# Altium footprint library IR2184.PcbLib: 24 footprints (part 1 of 2)
Each footprint in its own frame and in the unit in brackets; x right, y up, seen from the top. Pads: shape width x height; smd on the part's side, far side on the other; paste and mask are expansions set on the pad; w line width, h text height; cw(c..) or ccw(c..) is an arc to the next point about the centre after c.
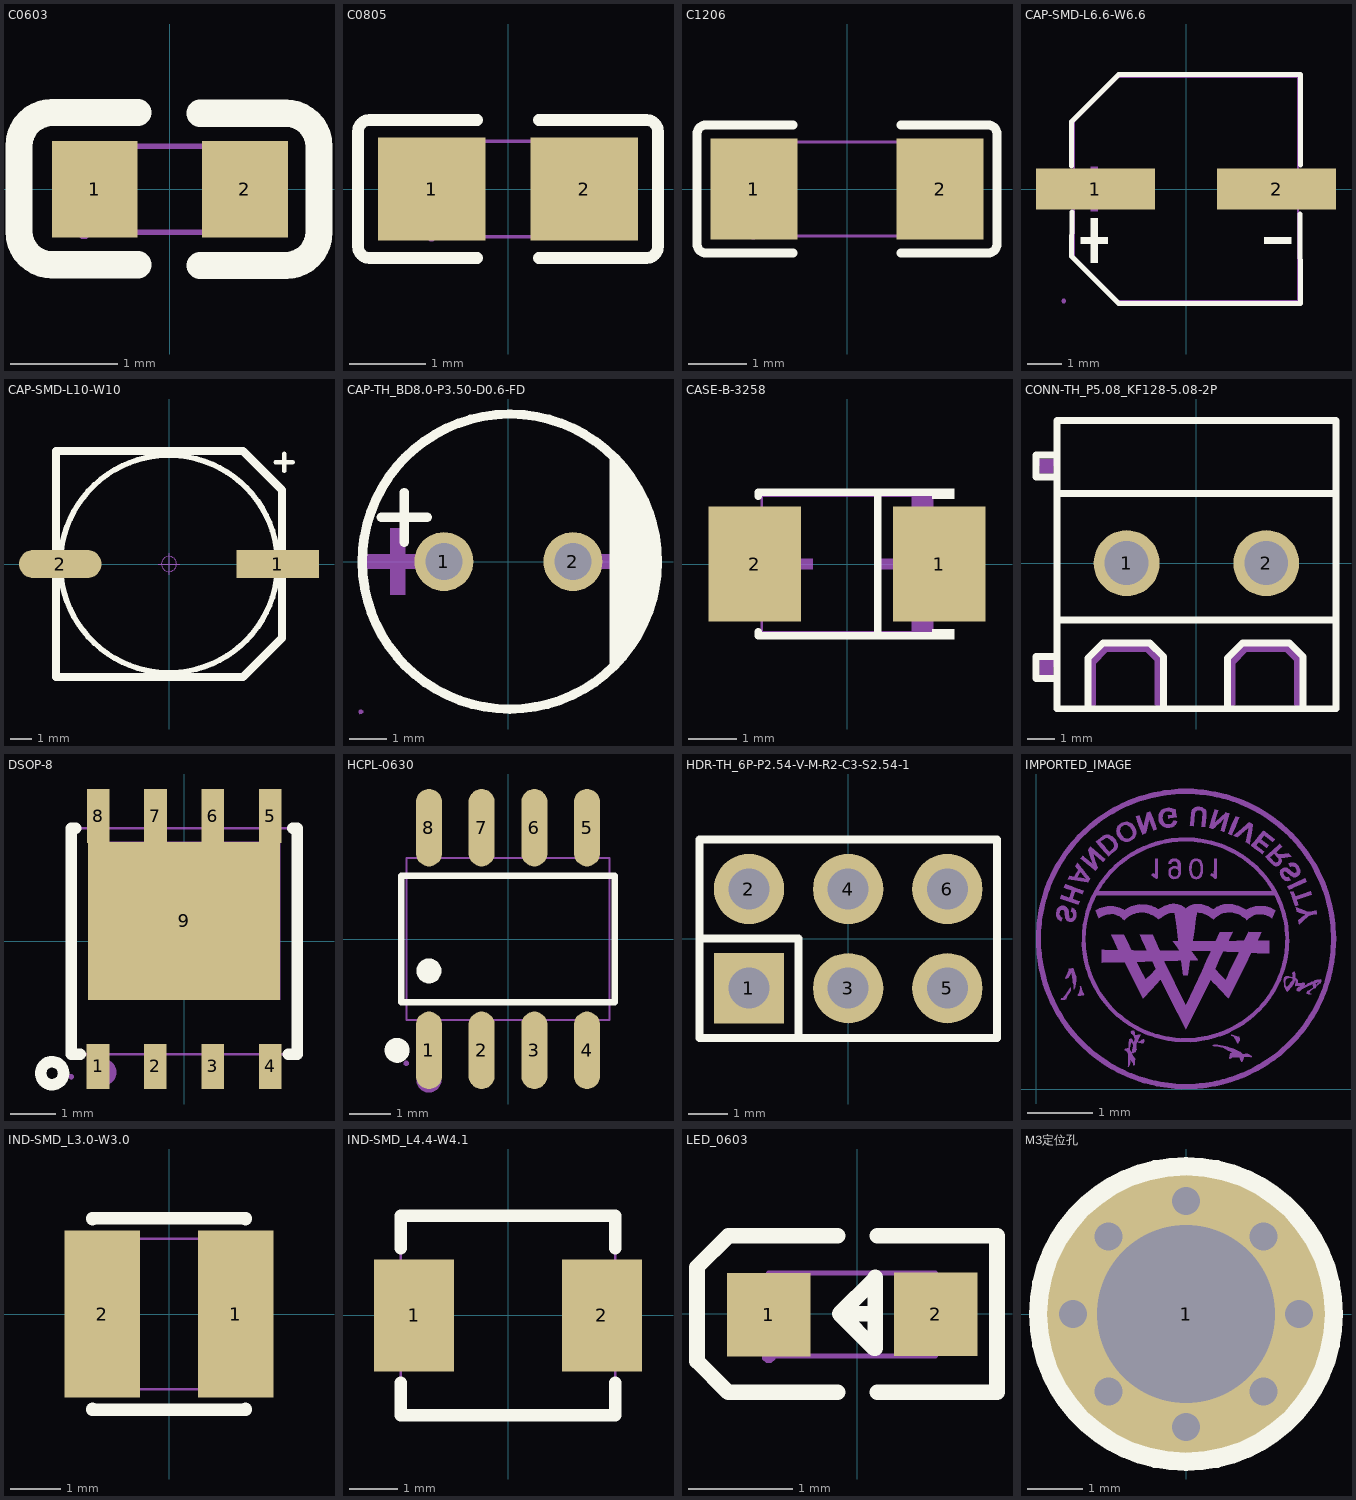
[diagram p0: the footprints below, top view; thin cyan lines are the x and y axes]

## C0603 [mm]
pads (2):
  rect 0.8x0.9 smd: 1(-0.7,0) 2(0.7,0)
Top Overlay:
  lines w0.254: -0.296,-0.704 -1.096,-0.704 cw(c-1.096,-0.394) -1.406,-0.394 -1.405,0.406 cw(c-1.096,0.406) -1.096,0.715 -0.296,0.715 ; 0.28,-0.71 1.08,-0.71 ccw(c1.08,-0.4) 1.39,-0.4 1.39,0.4 ccw(c1.08,0.4) 1.08,0.71 0.28,0.71
Mechanical 15:
  region: -0.8,-0.4 -0.8,0.4 -0.5,0.4 -0.5,-0.4
  region: 0.8,-0.4 0.8,0.4 0.5,0.4 0.5,-0.4
  region: -0.8,-0.34 -0.825,-0.34 -0.86,-0.375 -0.86,-0.425 -0.825,-0.46 -0.8,-0.46 -0.775,-0.46 -0.74,-0.425 -0.74,-0.375 -0.775,-0.34 -0.8,-0.34
  lines w0.051: -0.8,-0.4 -0.8,0.4 0.8,0.4 0.8,-0.4 -0.8,-0.4

## C0805 [mm]
pads (2):
  rect 1.41x1.35 smd paste-100 mask+0.051: 1(-1,0) 2(1,0)
Top Overlay:
  lines w0.152: -0.401,-0.904 -1.811,-0.904 cw(c-1.811,-0.751) -1.964,-0.751 -1.964,0.751 cw(c-1.811,0.751) -1.811,0.904 -0.401,0.904 ; 0.401,-0.904 1.811,-0.904 ccw(c1.811,-0.751) 1.964,-0.751 1.964,0.751 ccw(c1.811,0.751) 1.811,0.904 0.401,0.904
Top Paste:
  region: 1.705,0.64 1.705,-0.64 1.655,-0.69 0.505,-0.69 0.455,-0.64 0.45,-0.23 0.9,-0.23 0.9,0.22 0.46,0.22 0.455,0.64 0.505,0.69 1.655,0.69
  region: -1.705,-0.64 -1.705,0.64 -1.655,0.69 -0.505,0.69 -0.455,0.64 -0.45,0.23 -0.9,0.23 -0.9,-0.22 -0.46,-0.22 -0.455,-0.64 -0.505,-0.69 -1.655,-0.69
Mechanical 15:
  region: 1,0.625 1,-0.625 0.5,-0.625 0.5,0.625
  region: -1,-0.625 -1,0.625 -0.5,0.625 -0.5,-0.625
  region: -1,-0.685 -0.976,-0.684 -0.942,-0.649 -0.942,-0.601 -0.976,-0.566 -1,-0.565 -1.024,-0.566 -1.058,-0.601 -1.058,-0.649 -1.024,-0.684 -1,-0.685
  lines w0.051: -1,-0.625 1,-0.625 1,0.625 -1,0.625 -1,-0.625

## C1206 [mm]
pads (2):
  rect 1.485x1.728 smd paste-100 mask+0.051: 1(-1.593,0) 2(1.593,0)
Top Overlay:
  lines w0.152: -0.926,-1.093 -2.411,-1.093 cw(c-2.411,-0.94) -2.564,-0.94 -2.564,0.94 cw(c-2.411,0.94) -2.411,1.093 -0.926,1.093 ; 0.926,-1.093 2.411,-1.093 ccw(c2.411,-0.94) 2.564,-0.94 2.564,0.94 ccw(c2.411,0.94) 2.411,1.093 0.926,1.093
Top Paste:
  region: -0.85,-0.764 -0.85,-0.394 -0.95,-0.294 -1.255,-0.294 -1.355,-0.194 -1.355,0.194 -1.255,0.294 -0.95,0.294 -0.85,0.394 -0.85,0.764 -0.95,0.864 -2.235,0.864 -2.335,0.764 -2.335,-0.764 -2.235,-0.864 -0.95,-0.864
  region: 0.85,-0.764 0.85,-0.394 0.95,-0.294 1.255,-0.294 1.355,-0.194 1.355,0.194 1.255,0.294 0.95,0.294 0.85,0.394 0.85,0.764 0.95,0.864 2.235,0.864 2.335,0.764 2.335,-0.764 2.235,-0.864 0.95,-0.864
Mechanical 15:
  region: 1.6,-0.8 1.6,0.8 1.1,0.8 1.1,-0.8
  region: -1.6,-0.8 -1.6,0.8 -1.1,0.8 -1.1,-0.8
  region: -1.66,-0.8 -1.66,-0.825 -1.625,-0.86 -1.575,-0.86 -1.54,-0.825 -1.54,-0.8 -1.54,-0.775 -1.575,-0.74 -1.625,-0.74 -1.66,-0.775 -1.66,-0.8
  lines w0.051: -1.6,-0.8 1.6,-0.8 1.6,0.8 -1.6,0.8 -1.6,-0.8

## CAP-SMD-L6.6-W6.6 [mm]
pads (2):
  rect 3.5x1.2 smd: 1(-2.67,0) 2(2.67,0)
Top Overlay:
  region: 3.102,-1.419 3.102,-1.617 2.31,-1.617 2.31,-1.419
  region: -3.102,-1.419 -3.102,-1.617 -2.31,-1.617 -2.31,-1.419
  region: -2.805,-0.858 -2.805,-2.178 -2.607,-2.178 -2.607,-0.858
  lines w0.152: -3.376,0.686 -3.376,1.98 -1.98,3.376 3.376,3.376 3.369,0.708 ; -3.362,-0.686 -3.376,-1.981 -1.981,-3.376 3.376,-3.376 3.356,-0.739
Mechanical 6:
  region: 3.102,0.099 3.102,-0.099 2.31,-0.099 2.31,0.099
  region: -3.102,0.099 -3.102,-0.099 -2.31,-0.099 -2.31,0.099
  region: -2.805,0.66 -2.805,-0.66 -2.607,-0.66 -2.607,0.66
Mechanical 15:
  region: -3.6,0.35 -0.95,0.35 -0.95,-0.35 -3.6,-0.35
  region: 0.95,0.35 3.6,0.35 3.6,-0.35 0.95,-0.35
  region: -3.6,-3.24 -3.625,-3.24 -3.66,-3.275 -3.66,-3.325 -3.625,-3.36 -3.6,-3.36 -3.575,-3.36 -3.54,-3.325 -3.54,-3.275 -3.575,-3.24 -3.6,-3.24
  lines w0.051: -3.3,-1.98 -3.3,1.98 -1.98,3.3 3.3,3.3 3.3,-3.3 -1.98,-3.3 -3.3,-1.98

## CAP-SMD-L10-W10 [mm] "直径10mm，高13mm                 联系卖家 免费查找封装"
pads (2):
  rect 3.8x1.3 smd: 1(5,0)
  oval 3.8x1.3 smd: 2(-5,0)
Top Overlay:
  circle w0.254: c0,0 r5
  lines w0.2: 4.9,4.675 5.7,4.675 ; 5.296,4.275 5.296,5.075
  lines w0.381: 5.191,-3.413 3.404,-5.2 -5.2,-5.2 -5.2,5.2 3.404,5.2 5.2,3.404 5.2,-3.404
Mechanical 15:
  circle w0.05: c0,0 r0.35
  lines w0.05: -0.5,0 0.5,0 ; 0,-0.5 0,0.5
3D body "CS_SMD_10x13-P.STEP": height 13.05, standoff 0.04, extent -5.8,-5.15 5.8,5.15

## CAP-TH_BD8.0-P3.50-D0.6-FD [mm]
pads (2):
  round 1.6 hole 1: 1(-1.75,0) 2(1.75,0)
Top Overlay:
  region: 2.75,-3 2.941,-2.8 3.268,-2.355 3.536,-1.872 3.741,-1.359 3.88,-0.824 3.95,-0.276 3.95,0.276 3.88,0.824 3.741,1.359 3.536,1.872 3.268,2.355 2.941,2.8 2.75,3
  lines w0.254: -3.445,1.2 -2.2,1.2 ; -2.822,0.527 -2.822,1.873 ; 0.003,4 ccw(c0.038,0.001) 0.074,4
Mechanical 6:
  region: -3.2,0.5 -3.2,-0.9 -2.8,-0.9 -2.8,0.7 -2.8,0.9 -3.2,0.9
  region: -2.5,0.2 -3.9,0.2 -3.9,-0.2 -2.3,-0.2 -2.1,-0.2 -2.1,0.2
  region: 3.5,0.2 2.1,0.2 2.1,-0.2 3.7,-0.2 3.9,-0.2 3.9,0.2
Mechanical 15:
  region: -1.45,0 -1.451,0.059 -1.498,0.167 -1.582,0.25 -1.691,0.294 -1.809,0.294 -1.918,0.25 -2.002,0.167 -2.049,0.059 -2.05,0 -2.049,-0.059 -2.002,-0.167 -1.918,-0.25 -1.809,-0.294 -1.691,-0.294 -1.582,-0.25 -1.498,-0.167 -1.451,-0.059 -1.45,0
  region: 2.05,0 2.049,0.059 2.002,0.167 1.918,0.25 1.809,0.294 1.691,0.294 1.582,0.25 1.498,0.167 1.451,0.059 1.45,0 1.451,-0.059 1.498,-0.167 1.582,-0.25 1.691,-0.294 1.809,-0.294 1.918,-0.25 2.002,-0.167 2.049,-0.059 2.05,0
  region: -3.941,-4.072 -3.941,-4.047 -3.976,-4.012 -4.026,-4.012 -4.061,-4.047 -4.061,-4.072 -4.061,-4.096 -4.026,-4.132 -3.976,-4.132 -3.941,-4.096 -3.941,-4.072
  lines w0.051: -0.003,-4.072 cw(c-0.001,-0.072) 0,-4.072 -0.003,-4.072

## CASE-B-3258 [mm]
pads (2):
  rect 1.9x2.376 smd: 1(1.899,0) 2(-1.899,0)
Top Overlay:
  region: 1.75,1.552 1.75,1.34 2.207,1.34 2.207,1.552
  region: 1.75,-1.552 1.75,-1.34 2.207,-1.34 2.207,-1.552
  lines w0.152: -1.826,-1.391 -1.826,-1.476 1.826,-1.476 ; -1.826,1.391 -1.826,1.476 1.826,1.476 ; 0.635,-1.476 0.635,1.476
Mechanical 6:
  region: -1.54,-0.105 -1.54,0.105 -0.7,0.105 -0.7,-0.105
  region: 1.54,-0.105 1.54,0.105 0.7,0.105 0.7,-0.105
  region: 1.225,-0.7 1.225,0.7 1.015,0.7 1.015,-0.7
  region: 1.75,-1.4 1.75,-0.7 1.33,-0.7 1.33,-1.4
  region: 1.75,1.4 1.75,0.7 1.33,0.7 1.33,1.4
Mechanical 15:
  region: 1.81,1.4 1.81,1.425 1.775,1.46 1.725,1.46 1.69,1.425 1.69,1.4 1.69,1.375 1.725,1.34 1.775,1.34 1.81,1.375 1.81,1.4
  region: -1.75,-1.1 -1.75,1.1 -1.05,1.1 -1.05,-1.1
  region: 1.75,-1.1 1.75,1.1 1.05,1.1 1.05,-1.1
  lines w0.051: -1.75,-1.4 -1.75,1.4 1.75,1.4 1.75,-1.4 -1.75,-1.4

## CONN-TH_P5.08_KF128-5.08-2P [mm]
pads (2):
  round 2.4 hole 1.6: 1(-2.54,0) 2(2.54,0)
Top Overlay:
  lines w0.254: -5.08,-4.191 -5.842,-4.191 -5.842,-3.393 -5.08,-3.393 ; -5.08,-2.073 5.08,-2.073 ; -5.08,2.537 5.08,2.537 ; -5.08,3.139 -5.842,3.139 -5.842,3.937 -5.08,3.937 ; -5.08,5.2 5.08,5.2 5.08,-5.3 -5.08,-5.3 -5.08,5.2 ; -3.95,-5.3 -3.95,-3.45 -3.4,-2.9 -1.7,-2.9 -1.2,-3.4 -1.2,-5.3 ; 1.13,-5.3 1.13,-3.45 1.68,-2.9 3.38,-2.9 3.88,-3.4 3.88,-5.3
Mechanical 6:
  region: 1.153,-5.1 1.153,-3.6 1.153,-3.587 1.158,-3.563 1.167,-3.54 1.181,-3.519 1.19,-3.51 1.69,-3.01 1.699,-3.001 1.72,-2.987 1.743,-2.978 1.767,-2.973 1.78,-2.973 3.28,-2.973 3.293,-2.973 3.317,-2.978 3.34,-2.987 3.361,-3.001 3.37,-3.01 3.77,-3.41 3.779,-3.419 3.793,-3.44 3.802,-3.463 3.807,-3.487 3.807,-3.5 3.807,-5.1 3.807,-5.153 3.733,-5.227 3.627,-5.227 3.553,-5.153 3.553,-5.1 3.553,-3.553 3.227,-3.227 1.833,-3.227 1.407,-3.653 1.407,-5.1 1.407,-5.153 1.333,-5.227 1.227,-5.227 1.153,-5.153 1.153,-5.1
  region: -3.927,-5.1 -3.927,-3.6 -3.927,-3.587 -3.922,-3.563 -3.913,-3.54 -3.899,-3.519 -3.89,-3.51 -3.39,-3.01 -3.381,-3.001 -3.36,-2.987 -3.337,-2.978 -3.313,-2.973 -3.3,-2.973 -1.8,-2.973 -1.787,-2.973 -1.763,-2.978 -1.74,-2.987 -1.719,-3.001 -1.71,-3.01 -1.31,-3.41 -1.301,-3.419 -1.287,-3.44 -1.278,-3.463 -1.273,-3.487 -1.273,-3.5 -1.273,-5.1 -1.273,-5.153 -1.347,-5.227 -1.453,-5.227 -1.527,-5.153 -1.527,-5.1 -1.527,-3.553 -1.853,-3.227 -3.247,-3.227 -3.673,-3.653 -3.673,-5.1 -3.673,-5.153 -3.747,-5.227 -3.853,-5.227 -3.927,-5.153 -3.927,-5.1
  region: -5.2,-3.53 -5.71,-3.53 -5.71,-4.06 -5.22,-4.06
  region: -5.2,3.79 -5.72,3.79 -5.71,3.28 -5.22,3.26
Mechanical 15:
  region: -2.99,-0.4 -2.99,0.4 -2.09,0.4 -2.09,-0.4
  region: 2.09,-0.4 2.09,0.4 2.99,0.4 2.99,-0.4
  region: -5.14,-5.3 -5.14,-5.325 -5.105,-5.36 -5.055,-5.36 -5.02,-5.325 -5.02,-5.3 -5.02,-5.275 -5.055,-5.24 -5.105,-5.24 -5.14,-5.275 -5.14,-5.3
  lines w0.051: -5.08,-5.3 -5.08,5.3 5.08,5.3 5.08,-5.3 -5.08,-5.3

## DSOP-8 [mm]
pads (9):
  rect 0.5x1 smd paste-100 mask+0.05: 1(-1.906,-2.77) 2(-0.636,-2.77) 3(0.634,-2.77) 4(1.904,-2.77)
  rect 0.5x1.2 smd paste-100 mask+0.05: 5(1.906,2.77) 6(0.636,2.77) 7(-0.634,2.77) 8(-1.904,2.77)
  rect 4.25x3.5 smd paste-100 mask+0.05: 9(0,0.45)
Top Overlay:
  circle w0.254: c-2.921,-2.921 r0.254
  lines w0.254: -2.4,2.5 -2.5,2.5 -2.5,-2.5 -2.3,-2.5 ; 2.3,-2.5 2.5,-2.5 2.5,2.5 2.4,2.5
Top Paste:
  region: -1.657,-2.269 -1.657,-3.27 -2.155,-3.27 -2.155,-2.269
  region: -0.387,-2.269 -0.387,-3.27 -0.885,-3.27 -0.885,-2.269
  region: 0.883,-2.269 0.883,-3.27 0.385,-3.27 0.385,-2.269
  region: 2.153,-2.269 2.153,-3.27 1.655,-3.27 1.655,-2.269
  region: -2.125,2.2 -2.155,2.2 -2.155,3.37 -1.655,3.37 -1.655,2.2 -0.885,2.2 -0.885,3.37 -0.385,3.37 -0.385,2.2 0.385,2.2 0.385,3.37 0.885,3.37 0.885,2.2 1.655,2.2 1.655,3.37 2.155,3.37 2.155,2.17 2.125,2.17 2.125,-1.3 -2.125,-1.3
Mechanical 6:
  circle w0.3: c-1.8,-2.9 r0.15
Mechanical 15:
  region: -2.5,-3.06 -2.476,-3.059 -2.442,-3.024 -2.442,-2.976 -2.476,-2.941 -2.5,-2.94 -2.525,-2.941 -2.559,-2.976 -2.559,-3.024 -2.524,-3.059 -2.5,-3.06
  region: 1.704,-3 1.704,-2.4 2.104,-2.4 2.104,-3
  region: 0.434,-3 0.434,-2.4 0.834,-2.4 0.834,-3
  region: -0.836,-3 -0.836,-2.4 -0.436,-2.4 -0.436,-3
  region: -2.106,-3 -2.106,-2.4 -1.706,-2.4 -1.706,-3
  region: 1.706,2.2 1.706,3 2.106,3 2.106,2.2
  region: -2.104,2.2 -2.104,3 -1.704,3 -1.704,2.2
  region: -0.834,2.2 -0.834,3 -0.434,3 -0.434,2.2
  region: 0.436,2.2 0.436,3 0.836,3 0.836,2.2
  region: -2.125,2.2 2.125,2.2 2.125,-1.3 -2.125,-1.3
  region: -2.125,2.2 2.125,2.2 2.125,-1.3 -2.125,-1.3
  lines w0.051: -2.5,-2.5 2.5,-2.5 2.5,2.5 -2.5,2.5 -2.5,-2.5

## HCPL-0630 [mm]
pads (8):
  oval 0.63x1.865 smd: 1(-1.905,-2.682) 2(-0.635,-2.682) 3(0.635,-2.682) 4(1.905,-2.682) 5(1.905,2.682) 6(0.635,2.682) 7(-0.635,2.682) 8(-1.905,2.682)
Top Overlay:
  circle w0.3: c-1.905,-0.769 r0.15
  circle w0.3: c-2.672,-2.682 r0.15
  lines w0.152: -2.576,-1.521 2.576,-1.521 2.576,1.521 -2.576,1.521 -2.576,-1.521
Mechanical 6:
  circle w0.3: c-1.905,-3.4 r0.15
Mechanical 15:
  region: 1.695,1.936 1.695,2.446 2.115,2.446 2.115,1.936
  region: 1.695,2.396 1.695,2.996 2.115,2.996 2.115,2.396
  region: 0.425,1.936 0.425,2.446 0.845,2.446 0.845,1.936
  region: 0.425,2.396 0.425,2.996 0.845,2.996 0.845,2.396
  region: -0.845,1.936 -0.845,2.446 -0.425,2.446 -0.425,1.936
  region: -0.845,2.396 -0.845,2.996 -0.425,2.996 -0.425,2.396
  region: -2.115,1.936 -2.115,2.446 -1.695,2.446 -1.695,1.936
  region: -2.115,2.396 -2.115,2.996 -1.695,2.996 -1.695,2.396
  region: -1.695,-2.4 -1.695,-3 -2.115,-3 -2.115,-2.4
  region: -1.695,-1.94 -1.695,-2.45 -2.115,-2.45 -2.115,-1.94
  region: -0.425,-1.94 -0.425,-2.45 -0.845,-2.45 -0.845,-1.94
  region: -0.425,-2.4 -0.425,-3 -0.845,-3 -0.845,-2.4
  region: 0.845,-1.94 0.845,-2.45 0.425,-2.45 0.425,-1.94
  region: 0.845,-2.4 0.845,-3 0.425,-3 0.425,-2.4
  region: 2.115,-1.94 2.115,-2.45 1.695,-2.45 1.695,-1.94
  region: 2.115,-2.4 2.115,-3 1.695,-3 1.695,-2.4
  region: -2.51,-3 -2.51,-3.025 -2.475,-3.06 -2.425,-3.06 -2.39,-3.025 -2.39,-3 -2.39,-2.975 -2.425,-2.94 -2.475,-2.94 -2.51,-2.975 -2.51,-3
  lines w0.051: -2.45,-1.95 2.45,-1.95 2.45,1.95 -2.45,1.95 -2.45,-1.95

## HDR-TH_6P-P2.54-V-M-R2-C3-S2.54-1 [mm]
pads (6):
  rect 1.8x1.8 hole 1.05: 1(-2.54,-1.27)
  round 1.8 hole 1.05: 2(-2.54,1.27) 3(0,-1.27) 4(0,1.27) 5(2.54,-1.27) 6(2.54,1.27)
Top Overlay:
  lines w0.203: -3.81,0.002 -1.27,0.002 -1.27,-2.54 ; -1.058,-2.54 3.81,-2.54 ; 3.81,-2.54 3.81,2.54 -3.81,2.54 -3.81,-2.54 3.81,-2.54
Mechanical 15:
  region: -3.87,-2.5 -3.87,-2.525 -3.835,-2.56 -3.785,-2.56 -3.75,-2.525 -3.75,-2.5 -3.75,-2.475 -3.785,-2.44 -3.835,-2.44 -3.87,-2.475 -3.87,-2.5
  region: -2.86,1.59 -2.22,1.59 -2.22,0.95 -2.86,0.95
  region: -2.86,-0.95 -2.22,-0.95 -2.22,-1.59 -2.86,-1.59
  region: -0.32,-0.95 0.32,-0.95 0.32,-1.59 -0.32,-1.59
  region: -0.32,1.59 0.32,1.59 0.32,0.95 -0.32,0.95
  region: 2.22,1.59 2.86,1.59 2.86,0.95 2.22,0.95
  region: 2.22,-0.95 2.86,-0.95 2.86,-1.59 2.22,-1.59
  lines w0.051: -3.81,-2.5 -3.81,2.5 3.81,2.5 3.81,-2.5 -3.81,-2.5

## IMPORTED_IMAGE [mm]
Top Solder:
  drawing of 33 lines, arcs and shapes, not listed

## IND-SMD_L3.0-W3.0 [mm]
pads (2):
  rect 1.5x3.32 smd: 1(1.328,0) 2(-1.328,0)
Top Overlay:
  lines w0.254: -1.524,-1.891 -1.524,-1.905 1.524,-1.905 1.524,-1.891 ; -1.524,1.891 -1.524,1.905 1.524,1.905 1.524,1.891
Mechanical 15:
  region: -1.5,-1.45 -1.5,1.45 -0.75,1.45 -0.75,-1.45
  region: 1.5,-1.45 1.5,1.45 0.75,1.45 0.75,-1.45
  region: -1.44,-1.5 -1.441,-1.476 -1.476,-1.443 -1.524,-1.443 -1.559,-1.476 -1.56,-1.5 -1.559,-1.524 -1.524,-1.557 -1.476,-1.557 -1.441,-1.524 -1.44,-1.5
  lines w0.051: -1.5,-1.5 -1.5,1.5 1.5,1.5 1.5,-1.5 -1.5,-1.5

## IND-SMD_L4.4-W4.1 [mm]
pads (2):
  rect 1.65x2.3 smd: 1(-1.93,0) 2(1.93,0)
Top Overlay:
  lines w0.254: -2.2,-1.381 -2.2,-2.05 2.2,-2.05 2.2,-1.381 ; -2.2,1.381 -2.2,2.05 2.2,2.05 2.2,1.381
Mechanical 15:
  region: -2.14,2.05 -2.14,2.075 -2.175,2.11 -2.225,2.11 -2.26,2.075 -2.26,2.05 -2.26,2.025 -2.225,1.99 -2.175,1.99 -2.14,2.025 -2.14,2.05
  region: 1.299,-1 1.299,1 2.199,1 2.199,-1
  region: -2.199,-1 -2.199,1 -1.299,1 -1.299,-1
  lines w0.051: -2.2,-2.05 2.2,-2.05 2.2,2.05 -2.2,2.05 -2.2,-2.05

## LED_0603 [mil]
pads (2):
  rect 31.5x31.5 smd paste+0 mask+2: 1(-33.5,-0.4) 2(29.5,-0.2)
Top Overlay:
  lines w5.9: -7.5,-29.7 -48.8,-29.7 -60.6,-17.9 -60.6,-13.9 -60.6,13.6 -60.6,17.6 -48.8,29.4 -7.5,29.4 ; 6.7,0 -6.7,0 ; 7.5,-29.6 52.7,-29.6 ; 7.5,29.5 52.7,29.5 52.7,-28.8 ; -6.7,0 6.3,-13 6.7,-13 6.7,13.7 6.7,13.3 -6.7,0
Mechanical 6:
  region: 18.8,2.4 40.1,2.4 40.1,-2.7 18.8,-2.7
  region: 26.9,-10.8 26.9,10.4 32,10.4 32,-10.8
  region: -44.1,2.1 -22.9,2.1 -22.9,-3 -44.1,-3
Mechanical 15:
  region: -33.5,-13.8 -34.5,-13.8 -35.9,-15.21 -35.9,-17.2 -34.5,-18.6 -33.5,-18.6 -32.51,-18.6 -31.1,-17.2 -31.1,-15.21 -32.51,-13.8 -33.5,-13.8
  region: 17.7,-15.9 17.7,15.6 29.5,15.6 29.5,-15.9
  region: -33.5,-16.2 -33.5,15.3 -21.7,15.3 -21.7,-16.2
  lines w2: -33.5,-16 -33.5,15.4 29.5,15.4 29.5,-16 -33.5,-16

## M3定位孔 [mm]
pads (1):
  round 5 hole 3.2 paste+0 mask+0.102: 1(0,0)
via 0,2.032 diameter 0.61 hole 0.5
via 2.032,0 diameter 0.61 hole 0.5
via 0,-2.032 diameter 0.61 hole 0.5
via -2.032,0 diameter 0.61 hole 0.5
via -1.397,1.397 diameter 0.61 hole 0.5
via 1.397,-1.397 diameter 0.61 hole 0.5
via 1.397,1.397 diameter 0.61 hole 0.5
via -1.397,-1.397 diameter 0.61 hole 0.5
Top Overlay:
  circle w0.254: c0,0 r2.7
  lines w0.254: -2.6,0 cw(c0,0) 2.6,0 cw(c0,0) -2.6,0